# EAGLE library part TX5823 (library 5G8_fpv)
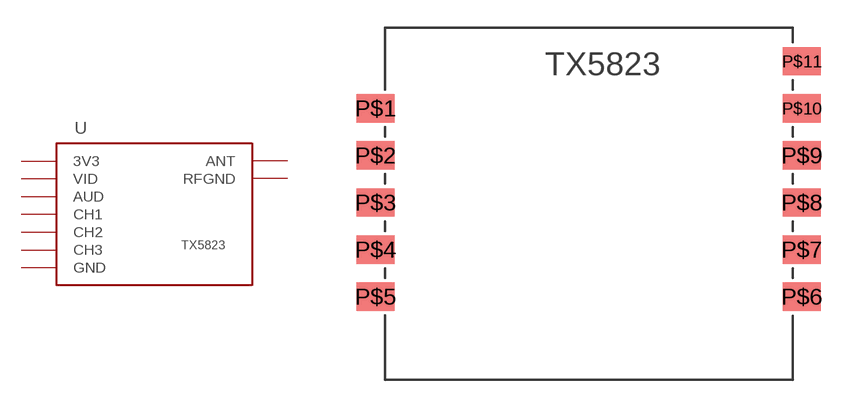
[diagram p0: symbol with the pads of TX5823; footprint TX5823]

Designator prefix -

## TX5823  [TX5823]
P$1  VID
P$2  AUD
P$3  GND
P$4  3V3
P$5  GND
P$6  CH1
P$7  CH2
P$8  CH3
P$9  RFGND
P$10  ANT
P$11  RFGND

## Footprint TX5823 (pad centres in mm)
smd 2.032 x 1.524: P$1 0,0; P$2 0,-2.54; P$3 0,-5.08; P$4 0,-7.62; P$5 0,-10.16; P$6 22.987,-10.16; P$7 22.987,-7.62; P$8 22.987,-5.08; P$9 22.987,-2.54; P$10 22.987,0; P$11 22.987,2.54